# EAGLE library part 2X3 (library vulcan-1)
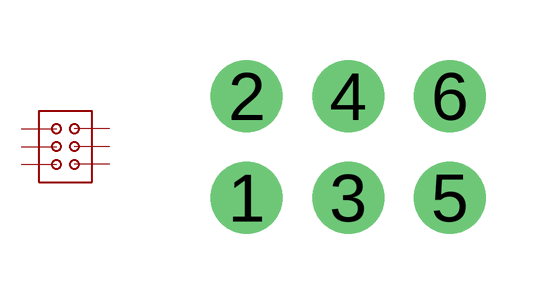
[diagram p7: symbol with the pads of 2X3; footprint 2X3]

Designator prefix -

## 2X3  [2X3]
1  1
2  2
3  3
4  4
5  5
6  6

## Footprint 2X3 (pad centres in mm)
drill 1.2: 1 -2.54,-2.54; 2 -2.54,0; 3 0,-2.54; 4 0,0; 5 2.54,-2.54; 6 2.54,0